# EAGLE library part NRF24L01+ (library Nrf24L01+)
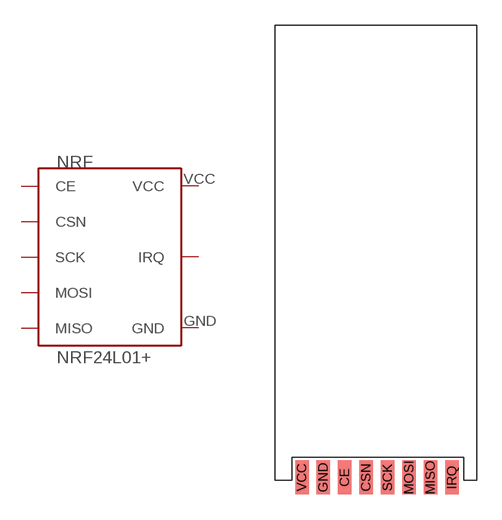
[diagram p0: symbol with the pads of NRF24L01+; footprint NRF24L01+]

Designator prefix NRF

## NRF24L01+  [NRF24L01+]
CE  CE
CSN  CSN
GND  GND
IRQ  IRQ
MISO  MISO
MOSI  MOSI
SCK  SCK
VCC  VCC

## Footprint NRF24L01+ (pad centres in mm)
smd 0.8 x 2: CE -1.97,-13.89; CSN -0.7,-13.89; GND -3.24,-13.89; IRQ 4.4,-13.89; MISO 3.12,-13.89; MOSI 1.85,-13.89; SCK 0.58,-13.89; VCC -4.51,-13.89